# Altium footprint library CMA-4544PF-W.PcbLib: 1 footprints
Each footprint in its own frame and in the unit in brackets; x right, y up, seen from the top. Pads: shape width x height; smd on the part's side, far side on the other; paste and mask are expansions set on the pad; w line width, h text height; cw(c..) or ccw(c..) is an arc to the next point about the centre after c.
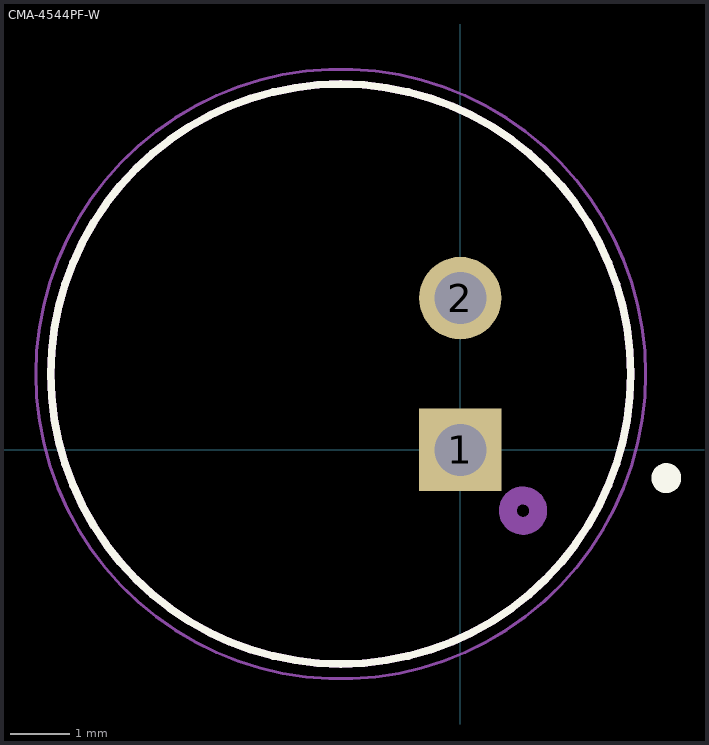
[diagram p0: the footprint, top view; thin cyan lines are the x and y axes]

## CMA-4544PF-W [mm]
pads (2):
  rect 1.378x1.378 hole 0.87: 1(0,0)
  round 1.378 hole 0.87: 2(0,2.54)
Top Overlay:
  circle w0.127: c-2,1.27 r4.85
  circle w0.3: c3.443,-0.471 r0.1
Top Assembly:
  circle w0.3: c1.048,-1.016 r0.254
  circle w0.127: c-2,1.27 r4.85
Top Courtyard:
  circle w0.05: c-2,1.27 r5.1
3D body "CUI_DEVICES_CMA-4544PF-W.step": height 4.7, standoff -4.5, extent -6.85,-3.58 2.85,6.12